# Altium footprint library Tyco 338068-2.PcbLib: 1 footprints
Each footprint in its own frame and in the unit in brackets; x right, y up, seen from the top. Pads: shape width x height; smd on the part's side, far side on the other; paste and mask are expansions set on the pad; w line width, h text height; cw(c..) or ccw(c..) is an arc to the next point about the centre after c.
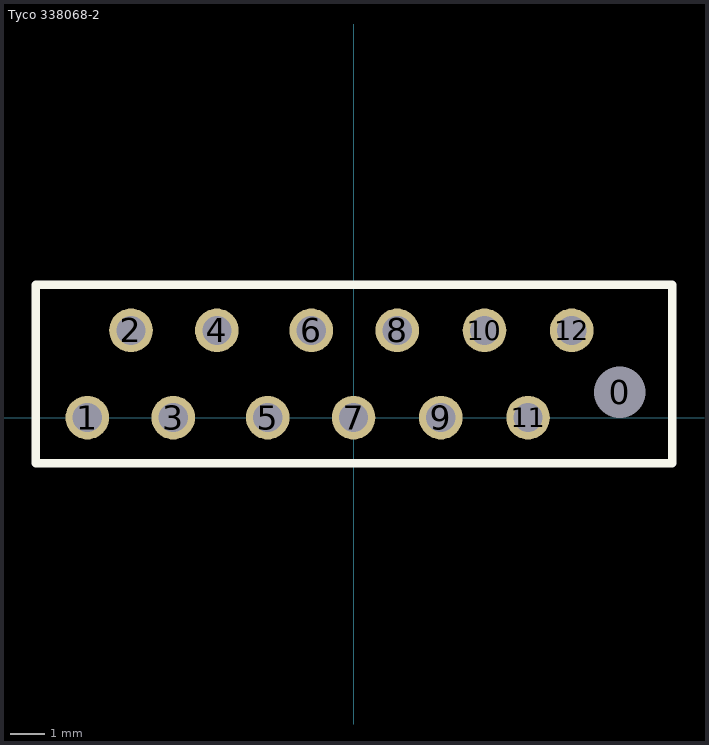
[diagram p0: the footprint, top view; thin cyan lines are the x and y axes]

## Tyco 338068-2 [mm] "12 position Micro-MaTch receptacle."
pads (13):
  round 1.27 hole 1.5: 0(7.75,0.74)
  round 1.27 hole 0.85: 1(-7.75,0) 2(-6.48,2.54) 3(-5.25,0) 4(-3.98,2.54) 5(-2.5,0) 6(-1.23,2.54) 7(0,0) 8(1.27,2.54) 9(2.54,0) 10(3.81,2.54) 11(5.08,0) 12(6.35,2.54)
Top Overlay:
  lines w0.254: -9.25,-1.33 9.275,-1.33 9.275,3.87 -9.25,3.87 -9.25,-1.33
3D body: height 5, standoff 0, extent -9.25,-1.457 9.402,3.997